# EAGLE library part KF2510_6PIN (library Connectors)
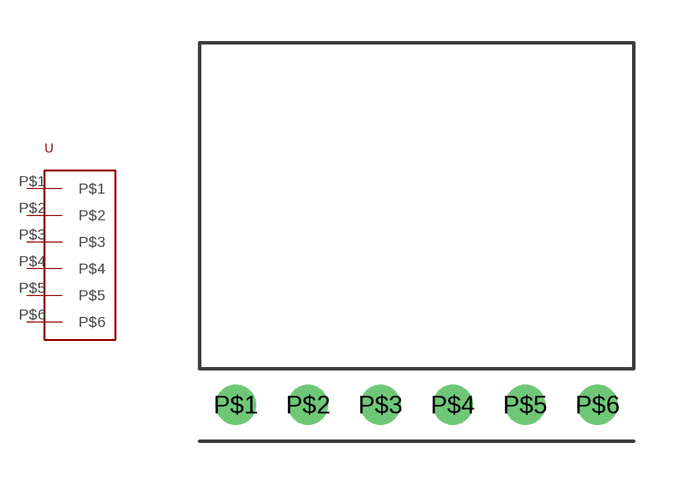
[diagram p0: symbol with the pads of KF2510_6PIN; footprint KF2510_6PIN]

Designator prefix -

## KF2510_6PIN  [KF2510_6PIN]
P$1  P$1
P$2  P$2
P$3  P$3
P$4  P$4
P$5  P$5
P$6  P$6

## Footprint KF2510_6PIN (pad centres in mm)
drill 0.9: P$1 0,0; P$2 2.54,0; P$3 5.08,0; P$4 7.62,0; P$5 10.16,0; P$6 12.7,0